# EAGLE library part ADS1115 (library bbauv)
The ADS1113, ADS1114, and ADS1115 are precision analog-to-digital converters (ADCs) with 16 bits of resolution offered in an ultra-small, leadless QFN-10 package or an MSOP-10 package. The ADS1113/4/5 are designed with precision, power, and ease of implementation in mind. The ADS1113/4/5 feature an onboard reference and oscillator. Data are transferred via an I2C-compatible serial interface; four I2C slave addresses can be selected. The ADS1113/4/5 operate from a single power supply ranging from 2.0V to 5.5V. The ADS1113/4/5 can perform conversions at rates up to 860 samples per second (SPS). An onboard PGA is available on the ADS1114 and ADS1115 that offers input ranges from the supply to as low as ±256mV, allowing both large and small signals to be measured with high resolution. The ADS1115 also features an input multiplexer (MUX) that provides two differential or four single-ended inputs. The ADS1113/4/5 operate either in continuous conversion mode or a single-shot mode that automatically powers down after a conversion and greatly reduces current consumption during idle periods. The ADS1113/4/5 are specified from –40°C to +125°C.
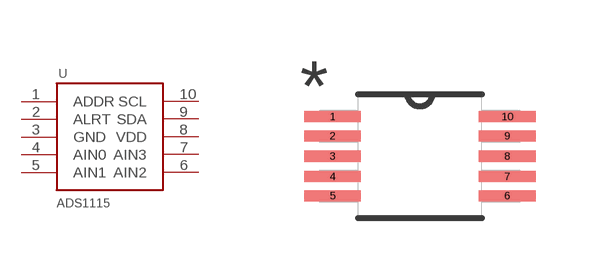
[diagram p0: symbol with the pads of SOP50P490X110-10N; footprint SOP50P490X110-10N]

Designator prefix -

## ADS1115DGST  [SOP50P490X110-10N]
1  ADDR
2  ALRT  out
3  GND
4  AIN0  in
5  AIN1  in
6  AIN2  in
7  AIN3  in
8  VDD
9  SDA
10  SCL  in

## Footprint SOP50P490X110-10N (pad centres in mm)
smd 1.422 x 0.279: 1 -2.184,0.991; 2 -2.184,0.508; 3 -2.184,0; 4 -2.184,-0.508; 5 -2.184,-0.991; 6 2.184,-0.991; 7 2.184,-0.508; 8 2.184,0; 9 2.184,0.508; 10 2.184,0.991